# EAGLE library part ISP (library U-PIC)
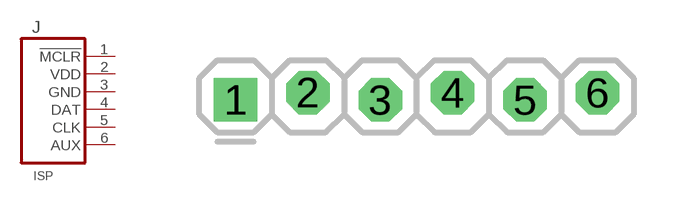
[diagram p1: symbol with the pads of ISP; footprint ISP]

Designator prefix J

## ISP  [ISP]
1  !MCLR
2  VDD
3  GND
4  DAT
5  CLK
6  AUX

## Footprint ISP (pad centres in mm)
drill 1.016 square: 1 0,-0.127
drill 1.016 octagon: 2 2.54,0.127; 3 5.08,-0.127; 4 7.62,0.127; 5 10.16,-0.127; 6 12.7,0.127